# Altium footprint library TO252.PcbLib: 1 footprints
Each footprint in its own frame and in the unit in brackets; x right, y up, seen from the top. Pads: shape width x height; smd on the part's side, far side on the other; paste and mask are expansions set on the pad; w line width, h text height; cw(c..) or ccw(c..) is an arc to the next point about the centre after c.
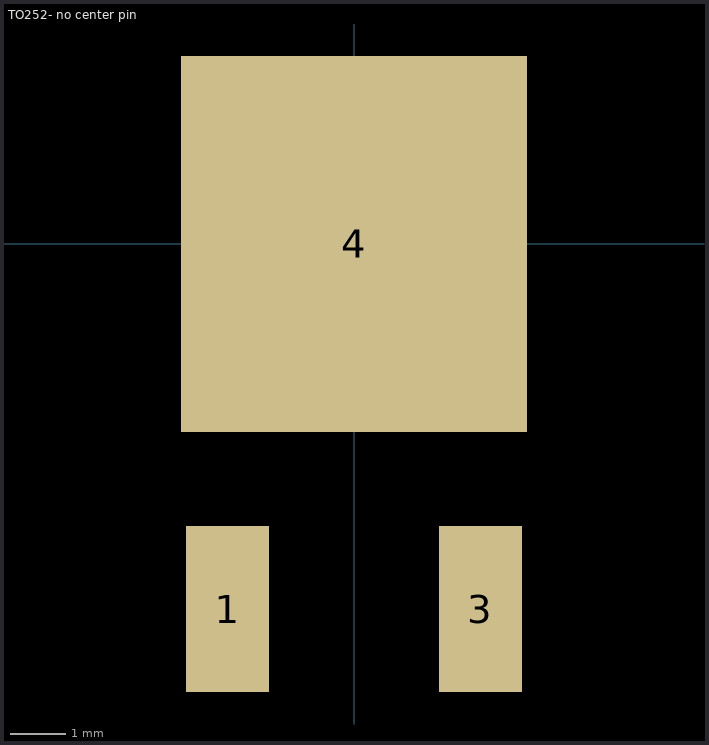
[diagram p0: the footprint, top view; thin cyan lines are the x and y axes]

## TO252- no center pin [mm]
pads (3):
  rect 1.5x3 smd: 1(-2.286,-6.6) 3(2.286,-6.6)
  rect 6.25x6.8 smd: 4(0,0)